# Altium schematic symbol library NCP1117DT50RKG.SchLib: 1 symbol
Pins are listed as number, name and electrical type; pins without a type are passive.

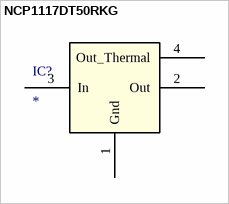
[diagram p0: symbol NCP1117DT50RKG]

## NCP1117DT50RKG
designator IC?
5V reg
pins: 1 Gnd, 2 Out, 3 In, 4 Out_Thermal